# Altium schematic symbol library 2020-04-06_13-32-46.SchLib: 2 symbols
Pins are listed as number, name and electrical type; pins without a type are passive.

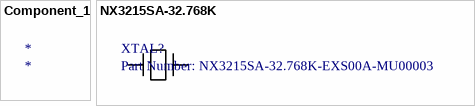
[diagram p0: symbols Component_1 to NX3215SA-32.768K]

## Component_1
designator *

## NX3215SA-32.768K
designator XTAL?, comment Part Number: NX3215SA-32.768K-EXS00A-MU00003
No Description Available; Vendor: NDK America; Built_By: EMA_Cory; Datasheet: https://media.digikey.com/pdf/Data%20Sheets/NDK%20PDFs/NX3215SA-32.768kHz-EXS00A-MU00003.pdf; Manufacturer_Part_Number: NX3215SA-32.768K-EXS00A-MU00003; Copyright: Copyright (C) 2018 Accelerated Designs. All rights reserved; RefDes: RefDes; Type: DEV; Value: Value
footprint XTAL_NX3215SA-32
pins: 1, 2